# Altium footprint library USB2JTAG.PcbLib: 8 footprints
Each footprint in its own frame and in the unit in brackets; x right, y up, seen from the top. Pads: shape width x height; smd on the part's side, far side on the other; paste and mask are expansions set on the pad; w line width, h text height; cw(c..) or ccw(c..) is an arc to the next point about the centre after c.
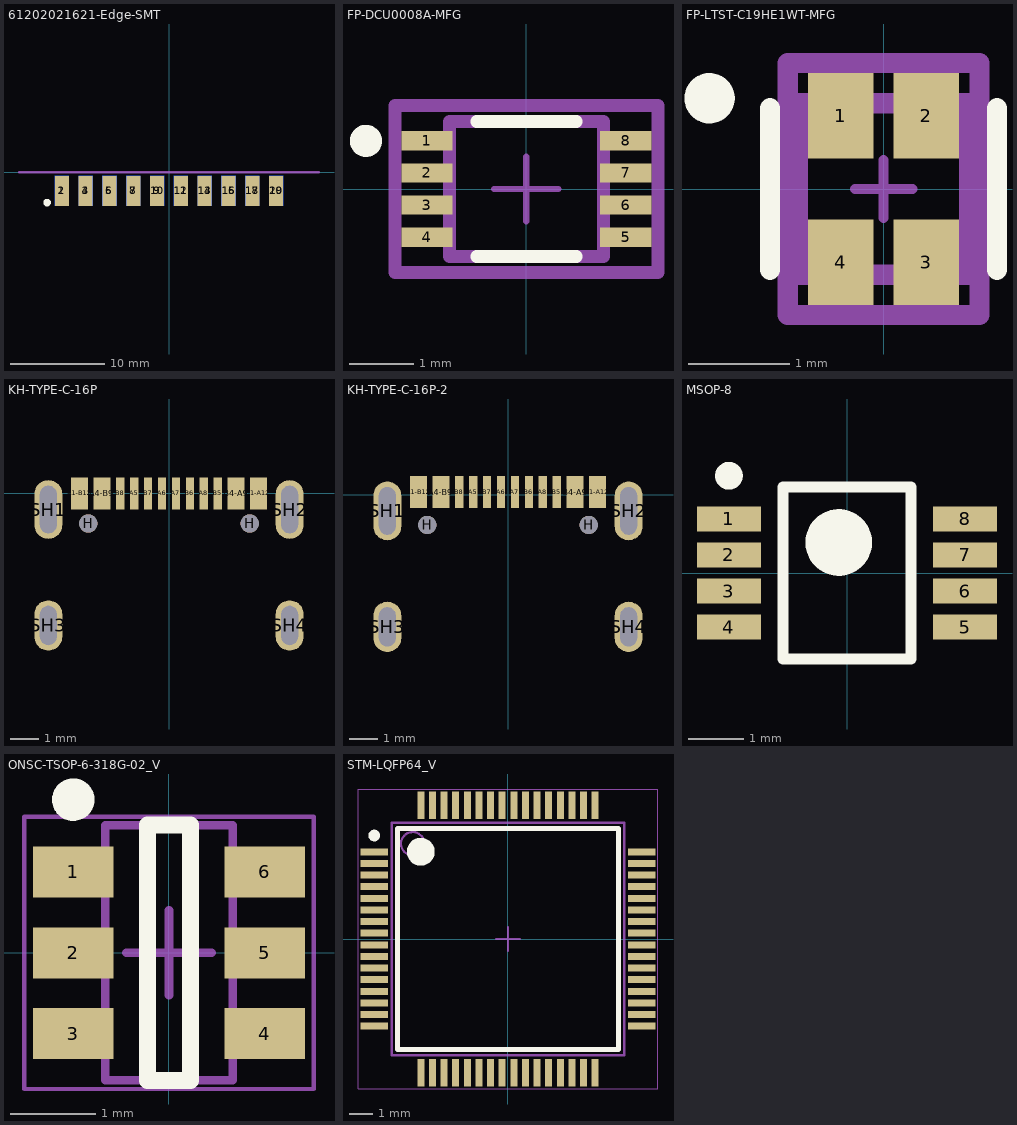
[diagram p0: the footprints below, top view; thin cyan lines are the x and y axes]

## 61202021621-Edge-SMT [mm] "20 pins, edge SMT gold plating"
height 9.1
pads (20):
  rect 1.5x3.2 smd: 1(-11.43,-2) 3(-8.89,-2) 5(-6.35,-2) 7(-3.81,-2) 9(-1.27,-2) 11(1.27,-2) 13(3.81,-2) 15(6.35,-2) 17(8.89,-2) 19(11.43,-2)
  rect 1.5x3.2 smd far side: 2(-11.43,-2) 4(-8.89,-2) 6(-6.35,-2) 8(-3.81,-2) 10(-1.27,-2) 12(1.27,-2) 14(3.81,-2) 16(6.35,-2) 18(8.89,-2) 20(11.43,-2)
Top Overlay:
  circle w0.4: c-13,-3.25 r0.2
Mechanical 1:
  lines w0.25: -16,0 16,0
3D body "61202021621.stp": height 3.42, standoff -5.75, extent -16.53,-3.225 16.53,8.875

## FP-DCU0008A-MFG [mm]
pads (8):
  rect 0.8x0.3 smd: 1(-1.55,0.75) 2(-1.55,0.25) 3(-1.55,-0.25) 4(-1.55,-0.75) 5(1.55,-0.75) 6(1.55,-0.25) 7(1.55,0.25) 8(1.55,0.75)
Top Overlay:
  circle w0.25: c-2.5,0.75 r0.125
  lines w0.2: -0.775,-1.05 0.775,-1.05 ; -0.775,1.05 0.775,1.05
Top Paste:
  rectangle: 1.175,-0.875 1.925,-0.625
  rectangle: 1.175,-0.375 1.925,-0.125
  rectangle: 1.175,0.125 1.925,0.375
  rectangle: 1.175,0.625 1.925,0.875
  rectangle: -1.925,-0.875 -1.175,-0.625
  rectangle: -1.925,-0.375 -1.175,-0.125
  rectangle: -1.925,0.125 -1.175,0.375
  rectangle: -1.925,0.625 -1.175,0.875
Mechanical 5:
  lines w0.2: -2.05,-1.3 -2.05,1.3 2.05,1.3 2.05,-1.3 -2.05,-1.3
  text ".Designator" at 0,0.188 h1
Mechanical 13:
  lines w0.2: -1.2,-1.05 -1.2,1.05 1.2,1.05 1.2,-1.05 -1.2,-1.05
Mechanical 15:
  lines w0.2: -2.05,-1.3 -2.05,1.3 2.05,1.3 2.05,-1.3 -2.05,-1.3
Mechanical 16:
  lines w0.1: -0.5,0 0.5,0 ; 0,-0.5 0,0.5
3D body "IC_Texas_Instruments_SN74LVC3G34DCUR_eec.STEP": height 0.25, standoff 0, extent -2.05,-1.3 2.05,1.3

## FP-LTST-C19HE1WT-MFG [mm]
pads (4):
  rect 0.65x0.85 smd paste+0 mask+0: 1(-0.425,0.725) 2(0.425,0.725) 3(0.425,-0.725) 4(-0.425,-0.725)
Top Overlay:
  circle w0.25: c-1.725,0.9 r0.125
  lines w0.2: -1.125,-0.8 -1.125,0.8 ; 1.125,-0.8 1.125,0.8
Mechanical 5:
  lines w0.2: -0.95,-1.25 -0.95,1.25 0.95,1.25 0.95,-1.25 -0.95,-1.25
  text ".Designator" at 0,0.188 h1
Mechanical 13:
  lines w0.2: -0.85,-0.85 -0.85,0.85 0.85,0.85 0.85,-0.85 -0.85,-0.85
Mechanical 15:
  lines w0.2: -0.95,-1.25 -0.95,1.25 0.95,1.25 0.95,-1.25 -0.95,-1.25
Mechanical 16:
  lines w0.1: -0.285,0 0.285,0 ; 0,-0.285 0,0.285
3D body "Diode_Lite-On_LTST-C19HE1WT_eec.STEP": height 0.25, standoff 0, extent -0.95,-1.25 0.95,1.25

## KH-TYPE-C-16P [mm] "USB type-c connector"
pads (18):
  rect 0.6x1.15 smd: A1-B12(-3.2,0) A4-B9(-2.4,0) B1-A12(3.2,0) B4-A9(2.4,0)
  rect 0.3x1.15 smd: A5(-1.25,0) A6(-0.25,0) A7(0.25,0) A8(1.25,0) B5(1.75,0) B6(0.75,0) B7(-0.75,0) B8(-1.75,0)
  round 0.65 hole 0.65 unplated: H(-2.89,-1.075) H(2.89,-1.075)
  oval 1x2.1 hole 0.6 slot 1.7 at 90 deg: SH1(-4.32,-0.575) SH2(4.32,-0.575)
  oval 1x1.8 hole 0.6 slot 1.4 at 90 deg: SH3(-4.32,-4.725) SH4(4.32,-4.725)
3D body "USB - C.step": height 3.26, standoff -1, extent -4.475,-7.4 4.475,0.35

## KH-TYPE-C-16P-2 [mm] "USB type-c connector"
pads (18):
  rect 0.6x1.15 smd: A1-B12(-3.2,0.1) A4-B9(-2.4,0.1) B1-A12(3.2,0.1) B4-A9(2.4,0.1)
  rect 0.3x1.15 smd: A5(-1.25,0.1) A6(-0.25,0.1) A7(0.25,0.1) A8(1.25,0.1) B5(1.75,0.1) B6(0.75,0.1) B7(-0.75,0.1) B8(-1.75,0.1)
  round 0.65 hole 0.65 unplated: H(-2.89,-1.075) H(2.89,-1.075)
  oval 1x2.1 hole 0.6 slot 1.7 at 90 deg: SH1(-4.32,-0.575) SH2(4.32,-0.575)
  oval 1x1.8 hole 0.6 slot 1.4 at 90 deg: SH3(-4.32,-4.725) SH4(4.32,-4.725)
3D body "USB - C.step": height 3.26, standoff -1, extent -4.475,-7.4 4.475,0.35

## MSOP-8 [mm] "TSOP, 8-Leads, Body 3,00x3,00mm, Pitch 0,65mm, IPC High Density"
height 1.2
pads (8):
  rect 1.15x0.45 smd: 1(-2.125,0.975) 2(-2.125,0.325) 3(-2.125,-0.325) 4(-2.125,-0.975) 5(2.125,-0.975) 6(2.125,-0.325) 7(2.125,0.325) 8(2.125,0.975)
Top Overlay:
  circle w0.25: c-2.125,1.75 r0.125
  circle w0.6: c-0.15,0.55 r0.3
  lines w0.2: -1.15,-1.55 -1.15,1.55 1.15,1.55 1.15,-1.55 -1.15,-1.55
3D body "MSOP8.step": height 1.1, standoff 0, extent -2.469,-1.55 2.469,1.55

## ONSC-TSOP-6-318G-02_V [mm] "SOP, 6-Leads, Body 3x1.5mm, Pitch 0.95mm"
height 1.1
pads (6):
  rect 0.95x0.6 smd: 1(-1.125,0.95) 2(-1.125,0) 3(-1.125,-0.95) 4(1.125,-0.95) 5(1.125,0) 6(1.125,0.95)
Top Overlay:
  circle w0.25: c-1.125,1.8 r0.125
  lines w0.2: -0.25,-1.5 0.25,-1.5 0.25,1.5 -0.25,1.5 -0.25,-1.5
Mechanical 13:
  lines w0.1: -0.75,-1.5 0.75,-1.5 0.75,1.5 -0.75,1.5 -0.75,-1.5
Mechanical 15:
  lines w0.05: -1.7,-1.6 1.7,-1.6 1.7,1.6 -1.7,1.6 -1.7,-1.6
  lines w0.1: -0.5,0 0.5,0 ; 0,-0.5 0,0.5
3D body "SOT23-6-2.step": height 1.45, standoff 0, extent -1.4,-1.45 1.4,1.45

## STM-LQFP64_V [mm] "Thin QFP, 64-Leads, Body 10x10mm, Pitch 0.5mm, ST Recommended"
height 1.6
pads (64):
  rect 1.2x0.3 smd: 1(-5.75,3.75) 2(-5.75,3.25) 3(-5.75,2.75) 4(-5.75,2.25) 5(-5.75,1.75) 6(-5.75,1.25) 7(-5.75,0.75) 8(-5.75,0.25) 9(-5.75,-0.25) 10(-5.75,-0.75) 11(-5.75,-1.25) 12(-5.75,-1.75) 13(-5.75,-2.25) 14(-5.75,-2.75) 15(-5.75,-3.25) 16(-5.75,-3.75) 33(5.75,-3.75) 34(5.75,-3.25) 35(5.75,-2.75) 36(5.75,-2.25) 37(5.75,-1.75) 38(5.75,-1.25) 39(5.75,-0.75) 40(5.75,-0.25) 41(5.75,0.25) 42(5.75,0.75) 43(5.75,1.25) 44(5.75,1.75) 45(5.75,2.25) 46(5.75,2.75) 47(5.75,3.25) 48(5.75,3.75)
  rect 0.3x1.2 smd: 17(-3.75,-5.75) 18(-3.25,-5.75) 19(-2.75,-5.75) 20(-2.25,-5.75) 21(-1.75,-5.75) 22(-1.25,-5.75) 23(-0.75,-5.75) 24(-0.25,-5.75) 25(0.25,-5.75) 26(0.75,-5.75) 27(1.25,-5.75) 28(1.75,-5.75) 29(2.25,-5.75) 30(2.75,-5.75) 31(3.25,-5.75) 32(3.75,-5.75) 49(3.75,5.75) 50(3.25,5.75) 51(2.75,5.75) 52(2.25,5.75) 53(1.75,5.75) 54(1.25,5.75) 55(0.75,5.75) 56(0.25,5.75) 57(-0.25,5.75) 58(-0.75,5.75) 59(-1.25,5.75) 60(-1.75,5.75) 61(-2.25,5.75) 62(-2.75,5.75) 63(-3.25,5.75) 64(-3.75,5.75)
Top Overlay:
  circle w0.6: c-3.75,3.75 r0.3
  circle w0.25: c-5.75,4.45 r0.125
  lines w0.2: -4.75,-4.75 4.75,-4.75 4.75,4.75 -4.75,4.75 -4.75,-4.75
Mechanical 13:
  circle w0.1: c-4.1,4.1 r0.5
  lines w0.1: -5,-5 5,-5 5,5 -5,5 -5,-5
Mechanical 15:
  lines w0.05: -6.45,-6.45 6.45,-6.45 6.45,6.45 -6.45,6.45 -6.45,-6.45
  lines w0.1: -0.5,0 0.5,0 ; 0,-0.5 0,0.5
3D body "S-PQFP-G64.step": height 1, standoff 0, extent -5.791,-5.787 5.79,5.787